# EAGLE library part SN74AHC244DW (library SN74AHC244DW)
SN74AHC244DW, Octal Bus Buffer, AHC, 11.9 @ 3.3 Vns, 8mA 2 to 5.5V 20-Pin SOIC Source: Datasheet <https://datasheet.datasheetarchive.com/originals/distributors/Datasheets-301/18405.pdf>
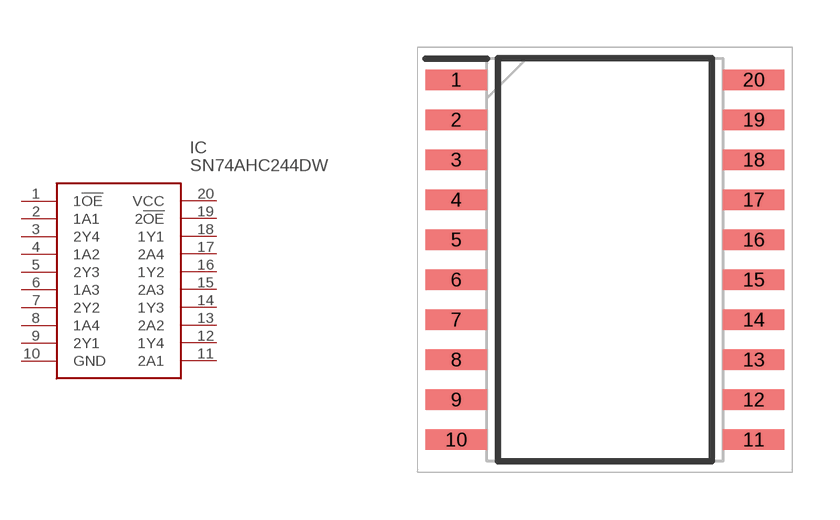
[diagram p0: symbol with the pads of SOIC127P1030X265-20N; footprint SOIC127P1030X265-20N]

Designator prefix IC

## SN74AHC244DW (Arrow_Part_Number: SN74AHC244DW; Arrow_Price-Stock: https://www.arrow.com/en/products/sn74ahc244dw/texas-instruments?region=nac; Description: SN74AHC244DW, Octal Bus Buffer, AHC, 11.9 @ 3.3 Vns, 8mA 2 to 5.5V 20-Pin SOIC; Height: 2.65mm; Manufacturer_Name: Texas Instruments; Manufacturer_Part_Number: SN74AHC244DW; Mouser_Part_Number: 595-SN74AHC244DW; Mouser_Price-Stock: https://www.mouser.co.uk/ProductDetail/Texas-Instruments/SN74AHC244DW?qs=j%2FZo4ajzVJKtLyxm%252BX3lew%3D%3D)  [SOIC127P1030X265-20N]
1  1!OE
2  1A1
3  2Y4
4  1A2
5  2Y3
6  1A3
7  2Y2
8  1A4
9  2Y1
10  GND
11  2A1
12  1Y4
13  2A2
14  1Y3
15  2A3
16  1Y2
17  2A4
18  1Y1
19  2!OE
20  VCC

## Footprint SOIC127P1030X265-20N (pad centres in mm)
DW (R-PDSO-G20)
smd 1.95 x 0.65: 1 -4.725,5.715; 2 -4.725,4.445; 3 -4.725,3.175; 4 -4.725,1.905; 5 -4.725,0.635; 6 -4.725,-0.635; 7 -4.725,-1.905; 8 -4.725,-3.175; 9 -4.725,-4.445; 10 -4.725,-5.715; 11 4.725,-5.715; 12 4.725,-4.445; 13 4.725,-3.175; 14 4.725,-1.905; 15 4.725,-0.635; 16 4.725,0.635; 17 4.725,1.905; 18 4.725,3.175; 19 4.725,4.445; 20 4.725,5.715